# EAGLE library part XC6805 (library my_library)
Single-Cell Li-ion/Li-polymer Linear Charger IC - Vin:4.5-6V - Iq:100uA - Icc: 5-40mA - Vcv: 4.2V, 4.05V(at high temperature)
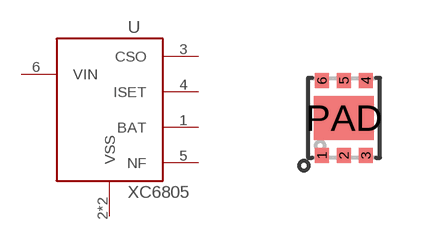
[diagram p10: symbol with the pads of DFN6-1.8X2.0; footprint DFN6-1.8X2.0]

Designator prefix U

## XC6805  [DFN6-1.8X2.0]
1  BAT
2  VSS
3  CSO
4  ISET
5  NF
6  VIN
PAD  VSS

## Footprint DFN6-1.8X2.0 (pad centres in mm)
smd 0.35 x 0.375: 1 -0.55,-0.938; 2 0,-0.938; 3 0.55,-0.938; 4 0.55,0.938; 5 0,0.938; 6 -0.55,0.938
smd 1.5 x 1.1: PAD 0,0